# Altium footprint library PCB - LEADED - D0016A_M.PCBLIB: 1 footprints
Each footprint in its own frame and in the unit in brackets; x right, y up, seen from the top. Pads: shape width x height; smd on the part's side, far side on the other; paste and mask are expansions set on the pad; w line width, h text height; cw(c..) or ccw(c..) is an arc to the next point about the centre after c.
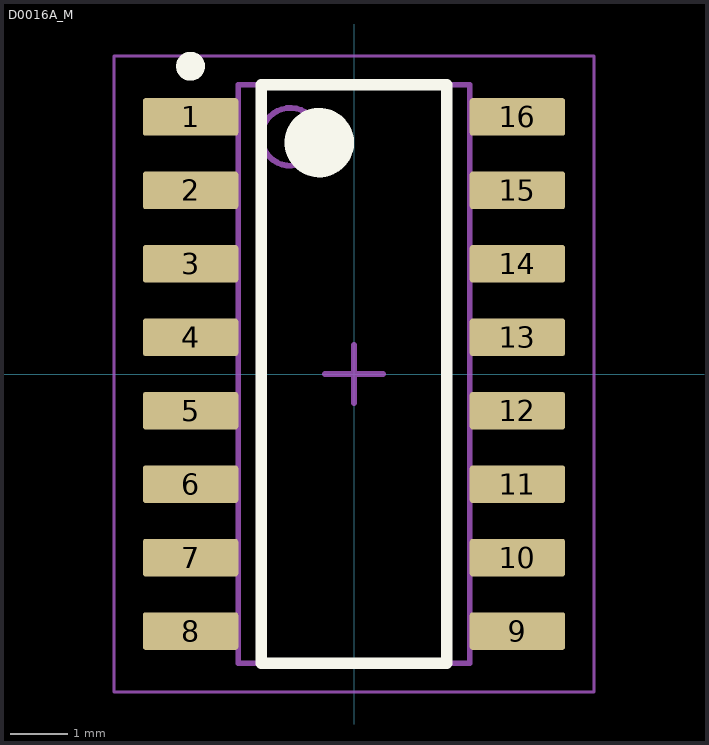
[diagram p0: the footprint, top view; thin cyan lines are the x and y axes]

## D0016A_M [mm] "SOIC, 16-Leads, Body 10x4mm, Pitch 1.27mm, IPC Low Density"
height 1.75
pads (16):
  rrect15% 1.65x0.65 smd: 1(-2.825,4.445) 2(-2.825,3.175) 3(-2.825,1.905) 4(-2.825,0.635) 5(-2.825,-0.635) 6(-2.825,-1.905) 7(-2.825,-3.175) 8(-2.825,-4.445) 9(2.825,-4.445) 10(2.825,-3.175) 11(2.825,-1.905) 12(2.825,-0.635) 13(2.825,0.635) 14(2.825,1.905) 15(2.825,3.175) 16(2.825,4.445)
Top Overlay:
  circle w0.25: c-2.825,5.32 r0.125
  circle w0.6: c-0.6,4 r0.3
  lines w0.2: -1.6,-5 -1.6,5 1.6,5 1.6,-5 -1.6,-5
Top Assembly:
  circle w0.1: c-1.1,4.1 r0.5
  lines w0.1: -2,-5 2,-5 2,5 -2,5 -2,-5
Top Courtyard:
  lines w0.05: -4.15,-5.5 4.15,-5.5 4.15,5.5 -4.15,5.5 -4.15,-5.5
Top Designator:
  text ".Designator" at -2.54,0.889 h0.8
Top Component Center:
  lines w0.1: -0.5,0 0.5,0 ; 0,-0.5 0,0.5
3D body "SOIC-16akaD0016AakaM16A.stp": height 1.59, standoff -0.01, extent -2.997,-4.953 2.997,4.953